# Altium schematic symbol library 5-103639-3.SchLib: 1 symbol
Pins are listed as number, name and electrical type; pins without a type are passive.

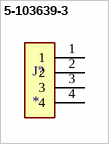
[diagram p0: symbol 5-103639-3]

## 5-103639-3
designator J?
PCB Mount Header, 04, Shrouded w/ Latch, .100CL, AMPMODU MTE Series | TE Connectivity 5-103639-3; SnapEDA_Link: https://www.snapeda.com/parts/5-103639-3/TE+Connectivity+AMP+Connectors/view-part/?ref=snap; Package: None; Value: *; MF: TE Connectivity; MP: 5-103639-3; EU_RoHS_Compliance: Compliant; Check_prices: https://www.snapeda.com/parts/5-103639-3/TE+Connectivity+AMP+Connectors/view-part/?ref=eda
footprint TE_5-103639-3
pins: 1, 2, 3, 4